# Altium footprint library 3POL_SMD0402.PcbLib: 1 footprints
Each footprint in its own frame and in the unit in brackets; x right, y up, seen from the top. Pads: shape width x height; smd on the part's side, far side on the other; paste and mask are expansions set on the pad; w line width, h text height; cw(c..) or ccw(c..) is an arc to the next point about the centre after c.
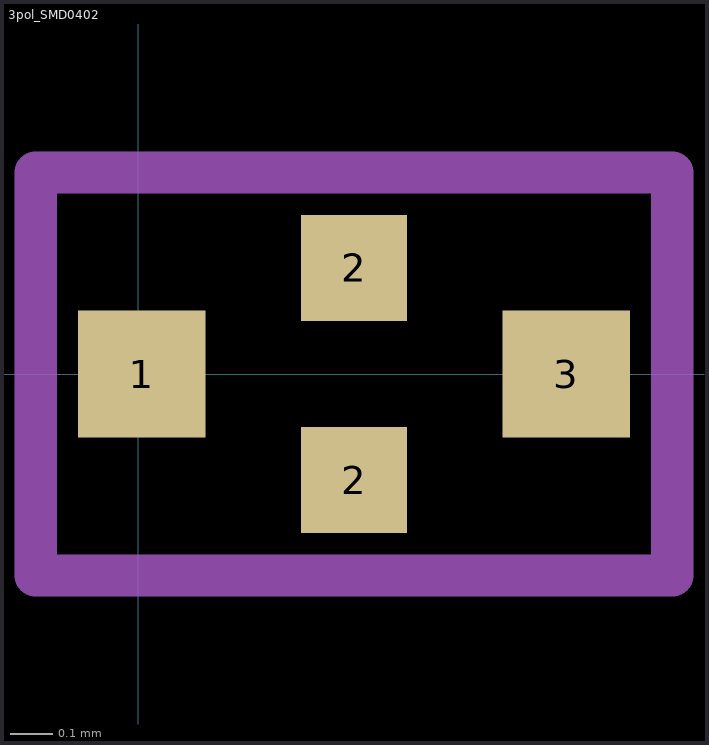
[diagram p0: the footprint, top view; thin cyan lines are the x and y axes]

## 3pol_SMD0402 [mm]
pads (4):
  rect 0.3x0.3 smd paste+0 mask+0: 1(0.008,0) 3(1.008,0)
  rect 0.25x0.25 smd paste+0 mask+0: 2(0.508,-0.25) 2(0.508,0.25)
Top Courtyard:
  lines w0.1: -0.242,-0.475 1.258,-0.475 1.258,0.475 -0.242,0.475 -0.242,-0.475
3D body "Cap_Murata_NFM15PC435R0G3D_eec.STEP": height 0.5, standoff 0, extent 0.008,-0.25 1.008,0.25